# Altium schematic symbol library PDRV8243HRXYQ1.SchLib: 2 symbols
Pins are listed as number, name and electrical type; pins without a type are passive.

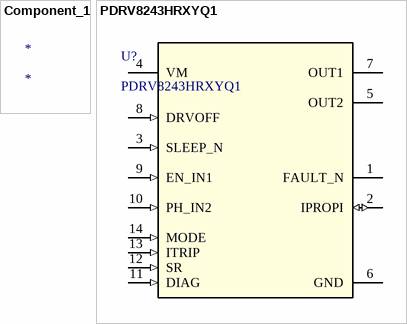
[diagram p0: symbols Component_1 to PDRV8243HRXYQ1]

## Component_1
designator *

## PDRV8243HRXYQ1
designator U?
No Description Available; Mfr_Name: Texas Instruments; Type: DEV; RefDes: RefDes; Copyright: Copyright (C) 2021 Ultra Librarian. All rights reserved.; Manufacturer_Part_Number: PDRV8243HRXYQ1
footprint RXY0014A-MFG
pins: 1 FAULT_N (oc), 2 IPROPI (io), 3 SLEEP_N (in), 4 VM (power), 5 OUT2, 6 GND (power), 7 OUT1, 8 DRVOFF (in), 9 EN_IN1 (in), 10 PH_IN2 (in), 11 DIAG (in), 12 SR (in), 13 ITRIP (in), 14 MODE (in)